# Altium schematic symbol library Diode Bridge.Schlib: 1 symbol
Pins are listed as number, name and electrical type; pins without a type are passive.

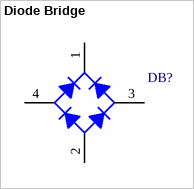
[diagram p0: symbol Diode Bridge]

## Diode Bridge
designator DB?  (value not drawn)
Full Wave Diode Bridge; Designer: Abbas Basereh; Design Date: 1395/11/09; ComponentLink1Description: Datasheet; ComponentLink2Description: Reference; Mounting Technology: Surface Mount\Through-Hole; Status: Unreleased
footprint BRIDGE KBP_LARGE
footprint SOIC-4_W
pins: 1 +, 2 -, 3 AC, 4 AC